# Altium footprint library Buttons.PcbLib: 12 footprints
Each footprint in its own frame and in the unit in brackets; x right, y up, seen from the top. Pads: shape width x height; smd on the part's side, far side on the other; paste and mask are expansions set on the pad; w line width, h text height; cw(c..) or ccw(c..) is an arc to the next point about the centre after c.
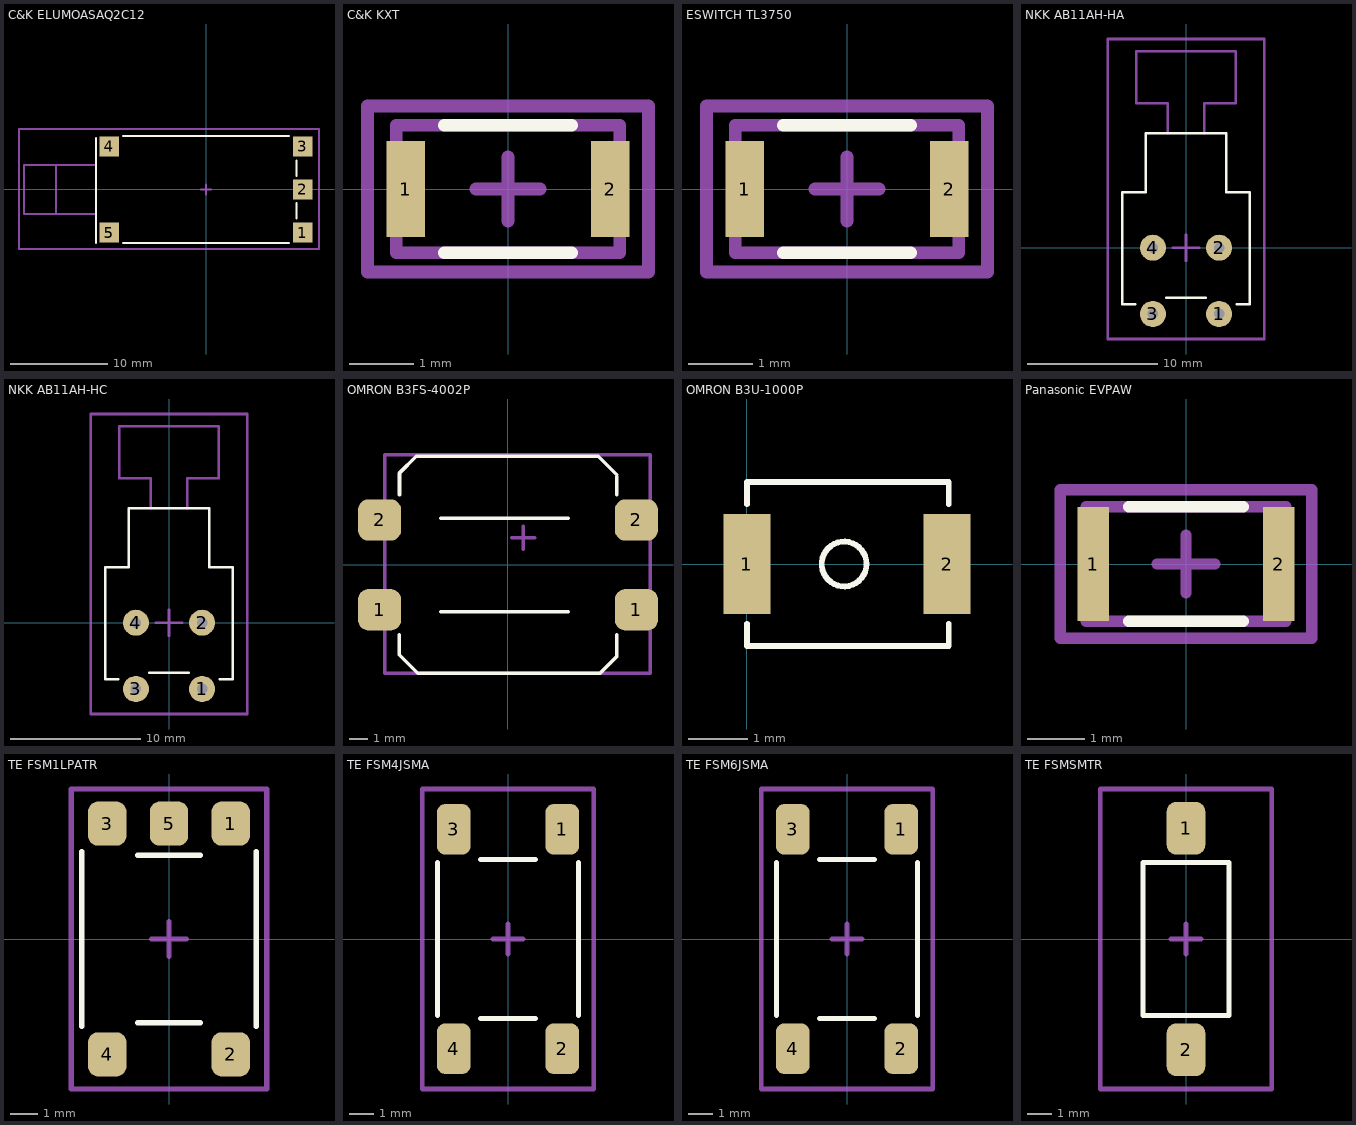
[diagram p0: the footprints below, top view; thin cyan lines are the x and y axes]

## C&K ELUMOASAQ2C12 [mm]
height 6.01
pads (5):
  rect 2.03x2.03 smd: 1(9.93,-4.42) 2(9.93,0) 3(9.93,4.42) 4(-9.93,4.42) 5(-9.93,-4.42)
Top Overlay:
  lines w0.2: -11.3,-5.5 -11.3,5.3 ; -8.5,-5.5 8.5,-5.5 ; -8.5,5.5 8.5,5.5 ; 9.3,-3 9.3,-1.4 ; 9.3,1.4 9.3,3
Mechanical 1:
  lines w0.2: -15.4,-2.5 -15.4,2.5 ; -11.3,-2.5 -18.7,-2.5 -18.7,2.5 -11.3,2.5
Mechanical 15:
  lines w0.2: -0.5,0 0.5,0 ; 0,-0.5 0,0.5 ; -19.2,-6.1 -19.2,6.2 11.6,6.2 11.6,-6.1 -19.2,-6.1
3D body "ELUMOASAQ2C12.STEP": height 5.59, standoff 0.25, extent -18.709,-5.715 10.415,5.715

## C&K KXT [mm]
height 0.6
pads (2):
  rect 0.6x1.5 smd: 1(-1.6,0) 2(1.6,0)
Top Overlay:
  lines w0.2: -1,-1 1,-1 ; -1,1 1,1
Mechanical 1:
  lines w0.2: -1.75,-1 -1.75,1 1.75,1 1.75,-1 -1.75,-1
Mechanical 15:
  lines w0.2: -0.5,0 0.5,0 ; 0,-0.5 0,0.5 ; -2.2,-1.3 -2.2,1.3 2.2,1.3 2.2,-1.3 -2.2,-1.3
3D body "C&K KXT.STEP": height 0.58, standoff 0, extent -1.75,-1 1.75,1

## ESWITCH TL3750 [mm]
height 0.6
pads (2):
  rect 0.6x1.5 smd: 1(-1.6,0) 2(1.6,0)
Top Overlay:
  lines w0.2: -1,-1 1,-1 ; -1,1 1,1
Mechanical 1:
  lines w0.2: -1.75,-1 1.75,-1 1.75,1 -1.75,1 -1.75,-1
Mechanical 15:
  lines w0.2: -0.5,0 0.5,0 ; 0,-0.5 0,0.5 ; -2.2,-1.3 2.2,-1.3 2.2,1.3 -2.2,1.3 -2.2,-1.3
3D body "TL3750AFxxxQG.STEP": height 0.58, standoff 0, extent -1.75,-1 1.75,1

## NKK AB11AH-HA [mm]
height 6.18
pads (4):
  round 2 hole 0.8: 1(2.54,-5.08) 2(2.54,0) 3(-2.54,-5.08) 4(-2.54,0)
Top Overlay:
  lines w0.2: -3.9,-4.34 -4.9,-4.34 -4.9,4.26 -3.1,4.26 -3.1,8.76 3.1,8.76 3.1,4.26 4.9,4.26 4.9,-4.34 3.9,-4.34 ; -1.5,-3.84 1.5,-3.84
Mechanical 1:
  lines w0.2: -1.4,8.76 -1.4,11.06 -3.8,11.06 -3.8,15.06 3.8,15.06 3.8,11.06 1.4,11.06 1.4,8.76
Mechanical 15:
  lines w0.2: -1,0 1,0 ; 0,-1 0,1 ; -6,-7 6,-7 6,16 -6,16 -6,-7
3D body "NKK AB11AH-HA.STEP": height 7.06, standoff -3.1, extent -4.902,-5.39 4.902,15.082

## NKK AB11AH-HC [mm]
height 6.18
pads (4):
  round 2 hole 0.8: 1(2.54,-5.08) 2(2.54,0) 3(-2.54,-5.08) 4(-2.54,0)
Top Overlay:
  lines w0.2: -3.9,-4.34 -4.9,-4.34 -4.9,4.26 -3.1,4.26 -3.1,8.76 3.1,8.76 3.1,4.26 4.9,4.26 4.9,-4.34 3.9,-4.34 ; -1.5,-3.84 1.5,-3.84
Mechanical 1:
  lines w0.2: -1.4,8.76 -1.4,11.06 -3.8,11.06 -3.8,15.06 3.8,15.06 3.8,11.06 1.4,11.06 1.4,8.76
Mechanical 15:
  lines w0.2: -1,0 1,0 ; 0,-1 0,1 ; -6,-7 -6,16 6,16 6,-7 -6,-7
3D body "NKK AB11AH-HC.STEP": height 7.06, standoff -3.1, extent -4.902,-5.39 4.902,15.082

## OMRON B3FS-4002P [mm]
height 7.11
pads (4):
  rrect50% 2.4x2.3 smd: 1(-7.15,-2.5) 1(7.15,-2.5) 2(-7.15,2.5) 2(7.15,2.5)
Top Overlay:
  lines w0.2: -6.05,-3.9 -6.05,-4.9 -6.05,-5 -5.02,-6.03 5.12,-6.03 6.05,-5.1 6.05,-3.9 ; -6.039,3.911 -6.039,5.111 -5.109,6.041 5.031,6.041 6.061,5.011 ; -3.75,-2.6 3.35,-2.6 ; -3.75,2.6 3.35,2.6 ; 6.061,3.911 6.061,4.911
Mechanical 15:
  lines w0.2: 0.215,1.5 1.485,1.5 ; 0.85,0.865 0.85,2.135 ; -6.85,-6.03 -6.85,6.13 7.921,6.13 7.921,-6.03 -6.85,-6.03
3D body "OMRON B3FS-4002P.STEP": height 4.3, standoff 0, extent -7.45,-6 7.55,6

## OMRON B3U-1000P [mm] "Without Ground Terminal, without Boss"
pads (2):
  rect 0.8x1.7 smd: 1(0,0) 2(3.4,0)
Top Overlay:
  circle w0.1: c1.651,0 r0.381
  lines w0.1: 0,-1.016 0,-1.397 3.429,-1.397 3.429,-1.016 ; 0,1.016 0,1.397 3.429,1.397 3.429,1.016
3D body "omron-b3u-1000p.stp": height 1.6, standoff 0, extent -0.349,-1.27 3.651,1.23

## Panasonic EVPAW [mm]
height 0.6
pads (2):
  rect 0.55x2 smd: 1(-1.625,0) 2(1.625,0)
Top Overlay:
  lines w0.2: -1,-1 1,-1 ; -1,1 1,1
Mechanical 1:
  lines w0.2: -1.75,-1 -1.75,1 1.75,1 1.75,-1 -1.75,-1
Mechanical 15:
  lines w0.2: -0.5,0 0.5,0 ; 0,-0.5 0,0.5 ; -2.2,-1.3 -2.2,1.3 2.2,1.3 2.2,-1.3 -2.2,-1.3
3D body "PANASONIC EVPAW.STEP": height 0.58, standoff 0, extent -1.75,-1 1.75,1

## TE FSM1LPATR [mm]
height 3.1
pads (5):
  rrect50% 1.395x1.6 smd: 1(2.25,4.2) 2(2.25,-4.2) 3(-2.25,4.2) 4(-2.25,-4.2) 5(0,4.2)
Top Overlay:
  lines w0.2: -3.175,-3.175 -3.175,3.175 ; -1.143,-3.048 1.143,-3.048 ; -1.143,3.048 1.143,3.048 ; 3.175,-3.175 3.175,3.175
Mechanical 15:
  lines w0.2: -0.635,0 0.635,0 ; 0,-0.635 0,0.635 ; -3.556,-5.461 3.556,-5.461 3.556,5.461 -3.556,5.461 -3.556,-5.461
3D body "FSM1LPATR.STEP": height 3.1, standoff 0, extent -3.1,-4 3.1,4

## TE FSM4JSMA [mm]
height 5.08
pads (4):
  rrect50% 1.4x2.1 smd: 1(2.25,4.55) 2(2.25,-4.55) 3(-2.25,4.55) 4(-2.25,-4.55)
Top Overlay:
  lines w0.2: -2.921,-3.175 -2.921,3.175 ; -1.143,-3.302 1.143,-3.302 ; -1.143,3.302 1.143,3.302 ; 2.921,-3.175 2.921,3.175
Mechanical 15:
  lines w0.2: -0.635,0 0.635,0 ; 0,-0.635 0,0.635 ; -3.556,-6.223 -3.556,6.223 3.556,6.223 3.556,-6.223 -3.556,-6.223
3D body "FSM4JSMA.STEP": height 5.08, standoff 0, extent -3,-5 3,5

## TE FSM6JSMA [mm]
height 7.11
pads (4):
  rrect50% 1.4x2.1 smd: 1(2.25,4.55) 2(2.25,-4.55) 3(-2.25,4.55) 4(-2.25,-4.55)
Top Overlay:
  lines w0.2: -2.921,-3.175 -2.921,3.175 ; -1.143,-3.302 1.143,-3.302 ; -1.143,3.302 1.143,3.302 ; 2.921,-3.175 2.921,3.175
Mechanical 15:
  lines w0.2: -0.635,0 0.635,0 ; 0,-0.635 0,0.635 ; -3.556,-6.223 -3.556,6.223 3.556,6.223 3.556,-6.223 -3.556,-6.223
3D body "FSM6JSMA.STEP": height 7.11, standoff 0, extent -3,-5 3,5

## TE FSMSMTR [mm]
height 4.42
pads (2):
  rrect50% 1.6x2.19 smd: 1(0,4.595) 2(0,-4.595)
Top Overlay:
  lines w0.2: -1.778,-3.175 1.778,-3.175 1.778,3.175 -1.778,3.175 -1.778,-3.175
Mechanical 15:
  lines w0.2: -0.635,0 0.635,0 ; 0,-0.635 0,0.635 ; -3.556,-6.223 -3.556,6.223 3.556,6.223 3.556,-6.223 -3.556,-6.223
3D body "FSMSMTR.STEP": height 4.42, standoff 0, extent -1.75,-4.984 1.75,4.985